# Altium integrated library SOS_PAT.IntLib: 36 symbols
Pins are listed as number, name and electrical type; pins without a type are passive.

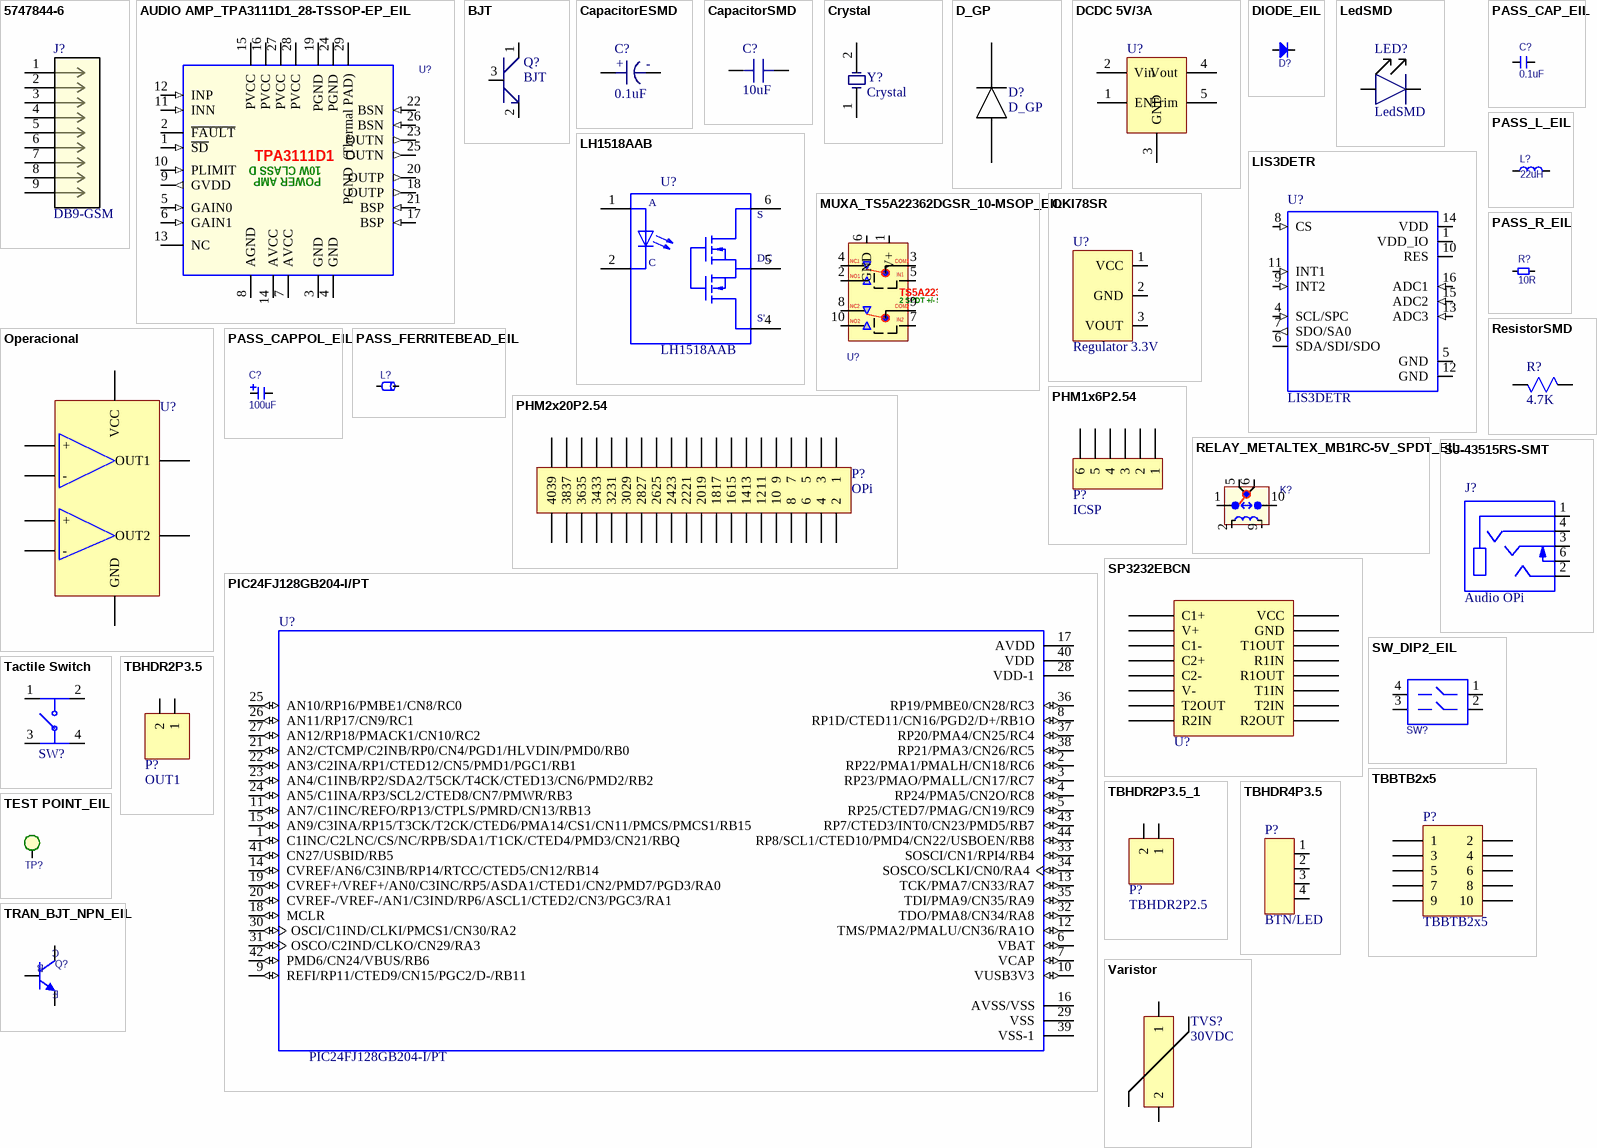
[diagram p0: symbols 5747844-6 to Varistor]

## 5747844-6
designator J?, comment DB9-GSM
Imported; PartNo: 5747844-6; Manufacturer Name: TE Connectivity AMP Connectors; PartDescription: CONN D-SUB RCPT 9POS R/A SOLDER; Review: No instalar; Digi-Key Part Number: A32119-ND; Distributors Part Number: A32119-ND; Manufacturers Part Number: 5747844-6; Package: 9 Position D-Sub Receptacle; Type: Through Hole
footprint CONN_5747844-6
pins: 1, 2, 3, 4, 5, 6, 7, 8, 9

## AUDIO AMP_TPA3111D1_28-TSSOP-EP_EIL
designator U?  (value not drawn)
IC AMP AUD PWR 10W MONO 28HTSSOP_AMPLIFICADOR CLASE D 10W 28-HTSSOP EXPOSED PAD; PartNo: TPA3111D1PWPR; Manufacturer Name: Texas Instruments; Package: 28-PowerTSSOP (0.173", 4.40mm Width); Value: TPA3111; Digi-Key Part Number: 296-25121-1-ND; Distributors Part Number: 296-25121-1-ND; Manufacturers Part Number: TPA3111D1PWPR; PartDescription: IC AMP AUD PWR 10W MONO 28HTSSOP; Type: Surface Mount
footprint CHIP_TSSOP-28 EXPOSED PAD LARGO 9.7MM/ANCHO 4.4MM/PITCH 0.65MM (EJ: TPA3111)
footprint CHIP_TSSOP-28 EXPOSED PAD LARGO 9.7MM/ANCHO 4.4MM/PITCH 0.65MM - REFLOW (EJ: TPA3111)
pins: 1 ~{SD} (in), 2 ~{FAULT} (oc), 3 GND (power), 4 GND (power), 5 GAIN0 (in), 6 GAIN1 (in), 7 AVCC (power), 8 AGND (power), 9 GVDD (out), 10 PLIMIT (in), 11 INN (in), 12 INP (in), 13 NC, 14 AVCC (power), 15 PVCC (power), 16 PVCC (power), 17 BSP (in), 18 OUTP (out), 19 PGND (power), 20 OUTP (out), 21 BSP (in), 22 BSN (in), 23 OUTN (out), 24 PGND (power), 25 OUTN (out), 26 BSN (in), 27 PVCC (power), 28 PVCC (power), 29 PGND  (Thermal PAD) (power)
text: 10W CLASS D; TPA3111D1; POWER AMP

## BJT
designator Q?
Transistor BJT; Manufacturer Name: Diodes Incorporated; Manufacturers Part Number: MMBT2222A-7-F; PartDescription: TRANS NPN 40V 0.6A SMD SOT23-3; Type: Surface Mount; Digi-Key Part Number: MMBT2222A-FDICT-ND; Distributors Part Number: MMBT2222A-FDICT-ND; Package: TO-236-3, SC-59, SOT-23-3; PartNo: MMBT2222A-7-F
footprint BJT
pins: 1, 2, 3

## CapacitorESMD
designator C?, comment 0.1uF
Electrolitic Capacitor; PartNo: CC0805KRX7R8BB104; Manufacturer Name: Yageo; PartDescription: CAP CER 0.1UF 25V X7R 0805; Type: Surface Mount; Digi-Key Part Number: 311-1141-1-ND; Value: 0.1uF; Package: 0805; Distributors Part Number: 311-1141-1-ND; Manufacturers Part Number: CC0805KRX7R8BB104
footprint CAPACITORE0805
footprint CAPACITORE1206
footprint RadialSMD6.3 (SMD Type Radial)
footprint RADIALSMD4.0
pins: 1, 2
text: +; -

## CapacitorSMD
designator C?  value 10uF  (hidden comment: CapacitorSMD)
Ceramic Capacitor; PartNo: CC0805ZKY5V6BB106; Manufacturer Name: Yageo; PartDescription: CAP CER 10UF 10V Y5V 0805; Type: Surface Mount; Digi-Key Part Number: 311-1355-1-ND; Package: 0805; Distributors Part Number: 311-1355-1-ND; Manufacturers Part Number: CC0805ZKY5V6BB106
footprint Capacitor1206
footprint Capacitor0805
pins: 1, 2

## Crystal
designator Y?
Crystal SMD; Manufacturer Name: ECS Inc.; Manufacturers Part Number: ECS-240-8-30B-CKM; PartDescription: CRYSTAL 24.0000MHZ 8PF SMD; Value: 24MHz; Digi-Key Part Number: XC1842CT-ND; Distributors Part Number: XC1842CT-ND; Package: 4-SMD, No Lead; PartNo: ECS-240-8-30B-CKM; Type: Surface Mount
footprint CrystalSMD
footprint CRYSTALSMDMini
footprint CRYSTALTHR (Crystal Thru - Hole)
pins: 1, 2

## D_GP
designator D?
Single Diode Rectifier SMD; PartNo: CDBA540-HF; Manufacturer Name: Comchip Technology; PartDescription: DIODE SCHOTTKY 40V 5A DO214AC; Type: Surface Mount; Digi-Key Part Number: 641-1707-1-ND; Package: DO-214AC, SMA; Distributors Part Number: 641-1707-1-ND; Manufacturers Part Number: CDBA540-HF
footprint SMA (Diode SMA)
footprint DIODO
footprint SMB (Diode SMB)
footprint SOD80
pins: 1, 2

## DCDC 5V/3A
designator U?  (value not drawn)
Non-Isolated PoL Module DC DC Converter 1 Output 0.59 ~ 6 V 3A 4.5V - 14V Input; PartNo: OKR-T/3-W12-C; Manufacturer Name: Murata Power Solutions Inc.; PartDescription: DC DC CONVERTER 0.59-6V 15W; Digi-Key Part Number: 811-2115-5-ND; Package: 5-SIP Module; Distributors Part Number: 811-2115-5-ND; Manufacturers Part Number: OKR-T/3-W12-C; Type: Through Hole
footprint OKR
pins: 1 EN, 2 Vin, 3 GND, 4 Vout, 5 Trim

## DIODE_EIL
designator D?  (value not drawn)
DIODE GEN PURP 100V 150MA SOD123; PartNo: 1N4148W-TP; Manufacturer Name: Micro Commercial Co; Value: 1N4148; Type: Surface Mount; Package: SOD-123; Digi-Key Part Number: 1N4148WTPMSCT-ND; Distributors Part Number: 1N4148WTPMSCT-ND; Manufacturers Part Number: 1N4148W-TP; PartDescription: DIODE GEN PURP 100V 150MA SOD123
footprint DIOD_SOD123 (EJ: 1N4148W)
footprint DIOD_SMA_1 (EJ: B340LA-13-F)
footprint DIOD_SMA_0 (EJ: B340LA-13-F)
footprint DIOD_DO-41 THR (EJ: 1N4729)
footprint DIOD_D2-PAK-3_1 ANODE (EJ: VS-MBRB1645PbF)
footprint DIOD_D2-PAK-3_2 ANODE (EJ: MBRB2545CTG)
footprint DIOD_DO-214_SMA_1 (EJ: B340LA-13-F, SS1H10)
footprint DIOD_SMB (EJ: RS3MB-13-F)
footprint DIOD_SMC (EJ: S3K)
footprint DIOD_SOT-23 (EJ: BZX84C15LT1)
footprint DIOD_TO-277A (SMPC) (EJ: V10P10)
footprint DIOD_POWERMITE3_MICROSEMI (EJ: UPS760E3/TR13)
footprint DIOD_DO-201AD THR (EJ: MUR460)
footprint DIOD_SOD323F (EJ: BAS21J,115)
footprint DIOD_DO-15 THR (EJ: P6KE440CA-TP)
footprint DIOD_R6 AXIAL THR (EJ: 6A10)
footprint DIOD_SOD123 - REFLOW (PARA DIODOS SOD123 Y SOD123FL EJ: 1N4148-TP)
pins: A, K

## LedSMD
designator LED?
Discrete Led SMD 1205 Green; PartNo: LTST-C150GKT; Manufacturer Name: Lite-On Inc.; PartDescription: LED GREEN CLEAR 1206 SMD; Type: Surface Mount; Digi-Key Part Number: 160-1169-1-ND; Package: 1206 (3216 Metric); Distributors Part Number: 160-1169-1-ND; Manufacturers Part Number: LTST-C150GKT
footprint SMD1206
pins: 1, 2

## LH1518AAB
designator U?
LH1518AAB Series SPST _1 Form A_ Solid State Relay Surface Mount - SMD-6; Manufacturer Name: Vishay; PartDescription: SSR RELAY SPST-NO 300MA 0-250V; Package: 6-SMD (0.300", 7.62mm); Value: *; Digi-Key Part Number: LH1518AAB-ND; Distributors Part Number: LH1518AAB-ND; Manufacturers Part Number: LH1518AAB; PartNo: LH1518AAB; Type: Surface Mount
footprint SOIC254P1005X390-6N
pins: 1 A, 2 C, 4 S', 5 DC, 6 S

## LIS3DETR
designator U?
MEMS digital output motion sensor ultra low-power high performance 3-axes nano accelerometer; Manufacturer Name: STMicroelectronics; PartDescription: ACCEL 2-16G I2C/SPI 16LGA; Package: 16-VFLGA; Value: *; Digi-Key Part Number: 497-16262-1-ND; Distributors Part Number: 497-16262-1-ND; Manufacturers Part Number: LIS3DETR; PartNo: LIS3DETR; Type: Surface Mount
footprint LGA16R50P5X3_300X300X100N
pins: 1 VDD_IO (power), 4 SCL/SPC (in), 5 GND (power), 6 SDA/SDI/SDO (io), 7 SDO/SA0 (out), 8 CS (in), 9 INT2 (in), 10 RES (power), 11 INT1 (in), 12 GND (power), 13 ADC3 (in), 14 VDD (power), 15 ADC2 (in), 16 ADC1 (in)

## MUXA_TS5A22362DGSR_10-MSOP_EIL
designator U?  (value not drawn)
IC SWITCH DUAL SPDT 10MSOP_5-V/3.3-V 2-CHANNEL 2:1 MULTIPLEXER/DEMULTIPLEXER ANALOGICO +/- VIN 10-MSOP; Manufacturer Name: Texas Instruments; Package: 10-TFSOP, 10-MSOP (0.118", 3.00mm Width); PartNo: TS5A22362DGSR; Value: TS5A22362; Digi-Key Part Number: 296-24799-1-ND; Distributors Part Number: 296-24799-1-ND; Manufacturers Part Number: TS5A22362DGSR; PartDescription: IC SWITCH DUAL SPDT 10MSOP; Type: Surface Mount
footprint CHIP_MSOP-10 LARGO 3.0MM/ANCHO 3.0MM/PITCH 0.5MM - REFLOW (EJ: RTC DS1390)
footprint CHIP_MSOP-10 LARGO 3.0MM/ANCHO 3.0MM/PITCH 0.5MM - REFLOW (EJ: RTC DS1390)
pins: 1 V+ (power), 2 NO1, 3 COM1, 4 NC1, 5 IN1, 6 GND, 7 IN2, 8 NC2, 9 COM2, 10 NO2
text: 2 SPDT +/- SW

## OKI78SR
designator U?, comment Regulator 3.3V
Regulator DC-DC 3.3V 1.5A; PartNo: OKI-78SR-3.3/1.5-W36-C; Manufacturer Name: Murata Power Solutions Inc.; PartDescription: DC DC CONVERTER 3.3V 5W; Digi-Key Part Number: 811-2195-5-ND; Package: 3-SIP Module; Distributors Part Number: 811-2195-5-ND; Manufacturers Part Number: OKI-78SR-3.3/1.5-W36-C; Type: Through Hole
footprint OKI78SR (Regulator DC-DC 3.3V 1.5A)
pins: 1 VCC, 2 GND, 3 VOUT

## Operacional
designator U?  (value not drawn)
2channel Vcc=4-16Vmax; PartNo: LM358DT; Manufacturer Name: STMicroelectronics; PartDescription: IC OPAMP GP 1.1MHZ 8SO; Digi-Key Part Number: 497-1591-1-ND; Distributors Part Number: 497-1591-1-ND; Manufacturers Part Number: LM358DT; Package: 8-SOIC (0.154", 3.90mm Width); Type: Surface Mount
footprint SO8
pins: 1 OUT1, 2 -, 3 +, 4 GND, 5 +, 6 -, 7 OUT2, 8 VCC

## PASS_CAP_EIL
designator C?  value 0.1uF  (hidden comment: PASS_CAP_EIL)
CAP CER 0.1UF 25V X7R 0603; PartNo: CL10B104KA8NNNC; Manufacturer Name: Samsung Electro-Mechanics; PartDescription: CAP CER 0.1UF 50V Y5V 0603; Type: Surface Mount; Package: 0603 (1608 Metric); Digi-Key Part Number: 1276-1012-1-ND; Distributors Part Number: 1276-1012-1-ND; Manufacturers Part Number: CL10B104KA8NNNC
footprint PASS_CAPC0603 (CONDENSADORES 0603)
footprint PASS_CAPC0805 (CONDENSADORES 0805)
footprint PASS_CAPC1206 (CONDENSADORES 1206)
footprint PASS_CAPC1210 (CONDENSADORES 1210)
footprint PASS_CAPC2220 (CONDENSADORES 2220)
footprint PASS_CAP_RAD PITCH:15MM L:18MM H:16MM T:10MM THR (CONDENSADORES TIPO FILM/DISCO CON PITCH:15MM L:18MM H:16MM T:10MM)
footprint PASS_CAP_RAD PITCH:15MM L:18MM H:11MM T:5MM THR (CONDENSADORES TIPO FILM/DISCO CON PITCH:15MM L:18MM H:11MM T:5MM)
footprint PASS_CAP_RAD TAMURA AMARILLO THR (CONDESADOR AMARILLO TAMURA)
footprint PASS_CAP_SERIE DEB THR (CONDENSADORES CERAMICOS MURATA SERIE DEB. DIA: 12.00MM X PITCH: 7.50MM)
footprint PASS_CAPC1210 - HV (CONDENSADORES 1210 ALTO VOLTAJE)
footprint PASS_CAPC0603 - REFLOW (CONDENSADOR 0603)
footprint PASS_CAPC0805 - REFLOW (CONDENSADOR 0805)
footprint PASS_CAPC1206 - REFLOW (CONDENSADOR 1206)
footprint PASS_CAPC1210 - REFLOW (CONDENSADOR 1210)
pins: 1, 2

## PASS_CAPPOL_EIL
designator C?  value 100uF  (hidden comment: PASS_CAPPOL_EIL)
CAP ALUM 100UF 20% 35V SMD; PartNo: EEE-FP1V101AP; Manufacturer Name: Panasonic Electronic Components; Type: Surface Mount; Package: Radial, Can - SMD; Digi-Key Part Number: PCE4442CT-ND; Distributors Part Number: PCE4442CT-ND; Manufacturers Part Number: EEE-FP1V101AP; PartDescription: CAP ALUM 100UF 20% 35V SMD
footprint PASS_CAPPOL PITCH:2MM DIA:5MM H:11MM THR (CONDENSADORES ELECTROLITICOS EN ENCAPSULADO RADIAL CON PITCH:2MM DIA:5MM H:11MM)
footprint PASS_CAPPOL_SMD-B (CONDENSADORES ELECTROLITICOS EN ENCAPSULADO CAN SMD SIZE B - A=B=4.3MM, L=5.5MM)
footprint PASS_CAPPOL_SMD-C (CONDENSADORES ELECTROLITICOS EN ENCAPSULADO CAN SMD SIZE C - A=B=5.3MM, L=5.5MM, H=6.5 MM MAX)
footprint PASS_CAPPOL PITCH:10MM DIA:30MM H:45MM THR (CONDENSADORES ELECTROLITICOS EN ENCAPSULADO RADIAL CON PITCH:10MM DIA:30MM H:45MM)
footprint PASS_CAPPOL_SMD-F (CONDENSADORES ELECTROLITICOS EN ENCAPSULADO CAN SMD SIZE F - A=B=8.3MM, L=10.2MM, H=10MM MAX)
footprint PASS_CAPPOL_SMD-G (CONDENSADORES ELECTROLITICOS EN ENCAPSULADO CAN SMD SIZE G - A=B=10.3MM, L=10.2MM, H=12 MM MAX)
footprint PASS_CAPPOL_SMD-P (CONDENSADORES ELECTROLITICOS EN ENCAPSULADO CAN SMD SIZE P - A=B=17MM, L=16.5MM, H=19 MM MAX)
footprint PASS_CAPPOL PITCH:10MM DIA:22MM H:25MM THR (CONDENSADORES ELECTROLITICOS EN ENCAPSULADO RADIAL CON PITCH:10MM DIA:22MM H:25MM)
footprint PASS_CAPPOL_SMD-K21 (CONDENSADORES ELECTROLITICOS EN ENCAPSULADO CAN SMD SIZE P - A=B=19MM, L=21.5MM, H=21 MM MAX)
footprint PASS_CAPPOL_SMD-D (CONDENSADORES ELECTROLITICOS EN ENCAPSULADO CAN SMD SIZE D/D8 - A=B=6.6MM, L=5.4/7.7MM, H=7.8 MM MAX)
footprint PASS_CAPPOL_SMD-D8 (CONDENSADORES ELECTROLITICOS EN ENCAPSULADO CAN SMD SIZE D/D8 - A=B=6.6MM, L=5.4/7.7MM, H=7.8 MM MAX)
footprint PASS_CAPPOL PITCH:10MM DIA:30MM H:50MM THR (CONDENSADORES ELECTROLITICOS EN ENCAPSULADO RADIAL CON PITCH:10MM DIA:30MM H:50MM)
footprint PASS_CAPPOL PITCH:3.5MM DIA:8MM H:13MM RUBYCON THR (CONDENSADORES ELECTROLITICOS EN ENCAPSULADO RADIAL CON PITCH:3.50MM DIA:8MM H:13MM)
footprint PASS_CAPPOL TANTALUM SM-D (CAPACITOR, SM TANTALUM; BODY 7.3 X 4.3 MM (LXW TYP))
footprint PASS_CAPPOL_COIN_HORIZ PITCH:10MM DIA:10.5MM H:11.5MM THR (CONDENSADORES ELECTROLITICOS EN ENCAPSULADO RADIAL CON PITCH:10MM DIA:11.5MM H:6.5MM)
pins: 1, 2

## PASS_FERRITEBEAD_EIL
designator L?  (value not drawn)
FERRITE BEAD 70 OHM 1812 1LN; PartNo: 742792510; Manufacturer Name: Wurth Electronics Inc.; Value: 70 Ohm@100MHz; Type: Surface Mount; Package: 1812 (4532 Metric); Digi-Key Part Number: 732-1640-1-ND; Distributors Part Number: 732-1640-1-ND; Manufacturers Part Number: 742792510; PartDescription: FERRITE BEAD 70 OHM 1812 1LN
footprint PASS_FER1206 (FERRITA 1206)
footprint PASS_FER0805 (FERRITA 0805)
footprint PASS_FER0603 (FERRITA 0603)
footprint PASS_FER1812 (FERRITA 1812)
footprint PASS_FER0603 - REFLOW (FERRITA 0603)
footprint PASS_FER0805 - REFLOW (FERRITA 0805)
footprint PASS_FER1206 - REFLOW (FERRITA 1206)
footprint PASS_FER1812 - REFLOW (FERRITA 1812)
pins: 1, 2

## PASS_L_EIL
designator L?  value 22uH  (hidden comment: PASS_L_EIL)
FIXED IND 22UH 3A 60 MOHM SMD; PartNo: SRU1063-220Y; Manufacturer Name: Bourns Inc.; Type: Surface Mount; Package: 0.394" L x 0.394" W (10.00mm x 10.00mm); Digi-Key Part Number: SRU1063-220YCT-ND; Distributors Part Number: SRU1063-220YCT-ND; Manufacturers Part Number: SRU1063-220Y; PartDescription: FIXED IND 22UH 3A 60 MOHM SMD
footprint PASS_INDUCT_CDRH127 (INDUCTOR SUMIDA DE LA SERIE CDRH127)
footprint PASS_INDUCT_WE_74435561100 (PARA INDUCTOR WURTH ELECTRONIK 74435561100)
footprint PASS_INDUCT_IHLP-6767 (INDUCTOR IHLP6767GZER5R6M01 ( L X W X H (17.15MM X 17.15MM X 7.00MM)))
footprint PASS_INDUCT_NR6045T100M (NDUCTOR NR6045T100M 10UH 3.0A 20% SMD)
footprint PASS_INDUCT_NRS8030T2R2NJGJ (INDUCTOR NRS8030T2R2NJGJ 2.2UH 4.8A 30% SMD)
footprint PASS_INDUCT_COOPER_DRQ127 (INDUCTOR COOPER DE SERIE DRQ127)
footprint PASS_INDUCT_1210 (INDUCTOR 1210)
footprint PASS_INDUCT_PM2120_ALTO 20.83MM (INDUCTOR BOURNS SERIE PM2120 DE ALTO 20.83MM)
footprint PASS_FER0603 - REFLOW (FERRITA 0603)
footprint PASS_FER0805 - REFLOW (FERRITA 0805)
footprint PASS_FER1206 - REFLOW (FERRITA 1206)
footprint PASS_FER1812 - REFLOW (FERRITA 1812)
footprint PASS_INDUCT_BOURNS_SRU1063 (INDUCTOR BOURNS SERIE SRU1063)
footprint PASS_INDUCT_BOURNS_SRN4018 (INDUCTOR BOURNS SERIE SRN4018)
pins: 1, 2

## PASS_R_EIL
designator R?  value 10R  (hidden comment: PASS_R_EIL)
RES SMD 10 OHM 1% 1/10W 0603; PartNo: RC0603FR-0710RL; Manufacturer Name: Stackpole Electronics Inc; PartDescription: RES 10 OHM 1% 1/4W 0805; Package: 0603 (1608 Metric); Digi-Key Part Number: RNCP0805FTD10R0CT-ND; Distributors Part Number: RNCP0805FTD10R0CT-ND; Manufacturers Part Number: RC0603FR-0710RL; Type: Surface Mount
footprint PASS_RESC0603 (RESISTENCIA 0603)
footprint PASS_RESC0805 (RESISTENCIA 0805)
footprint PASS_RESC2512 (RESISTENCIA 2512)
footprint PASS_RESC3015_FLIP (RESISTENCIA 3015 WIDE)
footprint PASS_RES_ERX2_PANASONIC (RESISTENCIAS PANASONIC SERIE ERG(X)2H)
footprint PASS_RES_S-5_RIEDON (RESISTENCIAS RIEDON DE 4W SERIE S-5 (L X W)(20.80MM X 7.50MM))
footprint PASS_RESC2010 (RESISTENCIA 2010)
footprint PASS_RESC2725 (RESISTENCIA 2725)
footprint PASS_RES_AXIAL_VR68_VISHAY THR (RESISTENCIAS VISHAY SERIE VR68 (D X L)(6.80MM X 19.00MM))
footprint PASS_RES_ROX075_VISHAY THR (RESISTENCIAS VISHAY SERIE ROX075 (D X L)(7.87MM X 20.32MM))
footprint PASS_RES_TO220 THR (RESISTENCIA TO220)
footprint PASS_RESC1210 (RESISTENCIA 1210)
footprint PASS_RES_CARBON_1W THR (RESISTENCIA CARBON CONVENCIONAL 1W)
footprint PASS_RESC1206 (RESISTENCIA 1206)
footprint PASS_RES_AXIAL_ROX3S_TE THR (RESISTENCIAS TE CONNECTIVITY ROX3S, (D X L)(5.50MM X 16.00MM))
footprint PASS_RES_AXIAL_MRA-05_VISHAY THR (RES AUDIO .39 OHM 5W 1% CERAMIC)
footprint PASS_RES_AXIAL_SQP10-NSP10_YAGEO THR (RESISTENCIAS YAGEO SERIE SQP10AJB (L X W) (48.00MM x 9.50MM)))
footprint PASS_RES_AXIAL_ERG3S_PANASONIC THR (RESISTENCIAS PANASONIC SERIE ERG3S (D X L)(5.50MM X 15.00MM))
footprint PASS_RES_AXIAL_SQP10-NSP10_YAGEO VERSION ALTA PARA VENT THR (RESISTENCIAS YAGEO SERIE SQP10AJB (L X W) (48.00MM x 9.50MM)) PINES LARGOS PARA MEJOR VENTILACION)
footprint PASS_RES_CARBON_1/4W THR (RESISTENCIA CARBON CONVENCIONAL 1/4 W)
footprint PASS_RESC0603 - REFLOW (RESISTENCIA 0603)
footprint PASS_RESC0805 - REFLOW (RESISTENCIA 0805)
footprint PASS_RESC1206 - REFLOW (RESISTENCIA 1206)
footprint PASS_RES (Footprint not found)
footprint PASS_RESC1210 - REFLOW (RESISTENCIA 1210)
pins: 1, 2

## PHM1x6P2.54
designator P?, comment ICSP
Pin Header Male 6 Pins Pitch 2.54mm; PartNo: CONN HEADER R/A 6POS 2.54MM; Manufacturer Name: Harwin Inc.; Digi-Key Part Number: 952-2247-ND; Package: 0.100" (2.54mm); Distributors Part Number: 952-2247-ND; Manufacturers Part Number: CONN HEADER R/A 6POS 2.54MM; PartDescription: CONN HEADER R/A 6POS 2.54MM; Type: Through Hole
footprint MALE6PIN
footprint MALE6PIN
pins: 1, 2, 3, 4, 5, 6

## PHM2x20P2.54
designator P?, comment OPi
Pin Header Male 40 Pins Pitch 2.54mm; PartNo: CONN HDR 40POS 0.1 GOLD PCB; Manufacturer Name: Sullins Connector Solutions; Digi-Key Part Number: S7123-ND; Package: Connector 0.100" (2.54mm) Through Hole; Distributors Part Number: S7123-ND; Manufacturers Part Number: CONN HDR 40POS 0.1 GOLD PCB; PartDescription: CONN HDR 40POS 0.1 GOLD PCB; Type: Through Hole
footprint MALE2x20PIN (Pin Header Male 40 Pins 2Rows)
pins: 1, 2, 3, 4, 5, 6, 7, 8, 9, 10, 11, 12, 13, 14, 15, 16, 17, 18, 19, 20, 21, 22, 23, 24, 25, 26, 27, 28, 29, 30, 31, 32, 33, 34, 35, 36, 37, 38, 39, 40

## PIC24FJ128GB204-I/PT
designator U?
128KB Flash, 8KB RAM, 16 MIPS, USB OTG, Crypto, 44 TQFP 10x10x1mm TRAY; Manufacturer Name: Microchip; PartDescription: IC MCU 16BIT 128KB FLASH 44TQFP; Package: 44-TQFP; Value: *; Digi-Key Part Number: PIC24FJ128GB204-I/PT-ND; Distributors Part Number: PIC24FJ128GB204-I/PT-ND; Manufacturers Part Number: PIC24FJ128GB204-I/PT; PartNo: PIC24FJ128GB204-I/PT; Type: Surface Mount
footprint QFP80P1200X1200X120-44N
pins: 1 C1INC/C2LNC/CS/NC/RPB/SDA1/T1CK/CTED4/PMD3/CN21/RBQ (io), 2 RP22/PMA1/PMALH/CN18/RC6 (io), 3 RP23/PMAO/PMALL/CN17/RC7 (io), 4 RP24/PMA5/CN2O/RC8 (io), 5 RP25/CTED7/PMAG/CN19/RC9 (io), 6 VBAT (io), 7 VCAP (io), 8 RP1D/CTED11/CN16/PGD2/D+/RB1O (io), 9 REFI/RP11/CTED9/CN15/PGC2/D-/RB11 (io), 10 VUSB3V3 (io), 11 AN7/C1INC/REFO/RP13/CTPLS/PMRD/CN13/RB13 (io), 12 TMS/PMA2/PMALU/CN36/RA1O (io), 13 TCK/PMA7/CN33/RA7 (io), 14 CVREF/AN6/C3INB/RP14/RTCC/CTED5/CN12/RB14 (io), 15 AN9/C3INA/RP15/T3CK/T2CK/CTED6/PMA14/CS1/CN11/PMCS/PMCS1/RB15 (io), 16 AVSS/VSS (power), 17 AVDD (power), 18 MCLR (io), 19 CVREF+/VREF+/AN0/C3INC/RP5/ASDA1/CTED1/CN2/PMD7/PGD3/RA0 (io), 20 CVREF-/VREF-/AN1/C3IND/RP6/ASCL1/CTED2/CN3/PGC3/RA1 (io), 21 AN2/CTCMP/C2INB/RP0/CN4/PGD1/HLVDIN/PMD0/RB0 (io), 22 AN3/C2INA/RP1/CTED12/CN5/PMD1/PGC1/RB1 (io), 23 AN4/C1INB/RP2/SDA2/T5CK/T4CK/CTED13/CN6/PMD2/RB2 (io), 24 AN5/C1INA/RP3/SCL2/CTED8/CN7/PMWR/RB3 (io), 25 AN10/RP16/PMBE1/CN8/RC0 (io), 26 AN11/RP17/CN9/RC1 (io), 27 AN12/RP18/PMACK1/CN10/RC2 (io), 28 VDD-1 (power), 29 VSS (power), 30 OSCI/C1IND/CLKI/PMCS1/CN30/RA2 (io), 31 OSCO/C2IND/CLKO/CN29/RA3 (io), 32 TDO/PMA8/CN34/RA8 (io), 33 SOSCI/CN1/RPI4/RB4 (io), 34 SOSCO/SCLKI/CN0/RA4 (io), 35 TDI/PMA9/CN35/RA9 (io), 36 RP19/PMBE0/CN28/RC3 (io), 37 RP20/PMA4/CN25/RC4 (io), 38 RP21/PMA3/CN26/RC5 (io), 39 VSS-1 (power), 40 VDD (power), 41 CN27/USBID/RB5 (io), 42 PMD6/CN24/VBUS/RB6 (io), 43 RP7/CTED3/INT0/CN23/PMD5/RB7 (io), 44 RP8/SCL1/CTED10/PMD4/CN22/USBOEN/RB8 (io)

## RELAY_METALTEX_MB1RC-5V_SPDT_EIL
designator K?  (value not drawn)
RELAY GENERAL PURPOSE SPDT 1A 5V; PartNo: G5V-1-DC5; Manufacturer Name: Panasonic Electric Works; PartDescription: RELAY TELECOM SPDT 1A 5VDC; Value: 5V/CONTACTO 1A; Package: *; Digi-Key Part Number: 255-1092-ND; Distributors Part Number: 255-1092-ND; Manufacturers Part Number: G5V-1-DC5; Type: Through Hole
footprint RELAY_METALTEX_MB1RC-5V_SPDT THR (RELAYS METALTEX MB1RC)
pins: 1, 2, 5, 6, 9, 10

## ResistorSMD
designator R?  value 4.7K  (hidden comment: ResistorSMD)
Chip Resistor SMD; PartNo: ERJ-6GEYJ472V; Manufacturer Name: Panasonic Electronic Components; PartDescription: RES SMD 4.7K OHM 5% 1/8W 0805; Digi-Key Part Number: P4.7KACT-ND; Package: 0805 (2012 Metric); Distributors Part Number: P4.7KACT-ND; Manufacturers Part Number: ERJ-6GEYJ472V; Type: Surface Mount
footprint ResistorSMD1206
footprint ResistorSMD0805
pins: 1, 2

## SJ-43515RS-SMT
designator J?, comment Audio OPi
PartNo: SJ-43515RS-SMT-TR; Manufacturer Name: CUI Inc.; PartDescription: CONN JACK 4COND 3.5MM SMD R/A; Value: *; Digi-Key Part Number: CP-43515RSSJCT-ND; Distributors Part Number: CP-43515RSSJCT-ND; Manufacturers Part Number: SJ-43515RS-SMT-TR; Type: Surface Mount
footprint CUI_SJ-43515RS-SMT
pins: 1 SLEEVE, 2 TIP, 3 RING1, 4 RING2, 6 RING_SWITCH

## SP3232EBCN
designator U?  (value not drawn)
Serial Adapter RS232; Manufacturer Name: MaxLinear, Inc.; Manufacturers Part Number: SP3232ECN-L/TR; PartDescription: IC TXRX RS232 ESD TRUE 16SOIC; Digi-Key Part Number: 1016-1803-1-ND; Distributors Part Number: 1016-1803-1-ND; Package: 16-SOIC (0.154", 3.90mm Width); PartNo: SP3232ECN-L/TR; Type: Surface Mount
footprint SP3232EBCN
pins: 1 C1+, 2 V+, 3 C1-, 4 C2+, 5 C2-, 6 V-, 7 T2OUT, 8 R2IN, 9 R2OUT, 10 T2IN, 11 T1IN, 12 R1OUT, 13 R1IN, 14 T1OUT, 15 GND, 16 VCC

## SW_DIP2_EIL
designator SW?  (value not drawn)
SWITCH TIN CONT 2 SEC 50V; PartNo: 208-2; Manufacturer Name: CTS Electrocomponents; PartDescription: SWITCH SLIDE DIP SPST 50MA 24V; Value: DIP SWITCH 2; Digi-Key Part Number: CT2082-ND; Distributors Part Number: CT2082-ND; Manufacturers Part Number: 208-2; Package: 0.100" (2.54mm), Full; Type: Through Hole
footprint SWIT_DIP-2- RAISED THR (DIP-8; Row Spacing 7.62 mm; Pitch 2.54 mm.  CAJA 7.26mm X 9.78mm)
pins: 1, 2, 3, 4

## Tactile Switch
designator SW?  (value not drawn)
Switch Contact; Manufacturer Name: C&K; Manufacturers Part Number: PTS645SM43SMTR92 LFS; PartDescription: SWITCH TACTILE SPST-NO 0.05A 12V; Digi-Key Part Number: CKN9112CT-ND; Distributors Part Number: CKN9112CT-ND; Package: 6.00mm x 6.00mm; PartNo: PTS645SM43SMTR92 LFS; Type: Surface Mount
footprint TactileSwitch
pins: 1, 2, 3, 4

## TBBTB2x5
designator P?
Connector board to board 2 Rows, 5 Columns Pitch 2.54mm; Manufacturer Name: On Shore Technology Inc.; Manufacturers Part Number: 302-S101; PartDescription: CONN HEADER VERT 10POS 2.54MM; Digi-Key Part Number: ED1543-ND; Distributors Part Number: ED1543-ND; PartNo: 302-S101; Type: Through Hole
footprint TBBTB2x5 (Board to Board 2x5 Pitch 2.54mm)
footprint TBBTB2x5RightAngle
pins: 1, 2, 3, 4, 5, 6, 7, 8, 9, 10

## TBHDR2P3.5
designator P?, comment OUT1
Connector 2 positions with pitch 3.5mm; PartNo: 691321100002; Manufacturer Name: Wurth Electronics Inc.; PartDescription: TERM BLOCK HDR 2POS VERT 3.5MM; Digi-Key Part Number: 732-2763-ND; Package: 0.138" (3.50mm) Vertical Through Hole; Distributors Part Number: 732-2763-ND; Manufacturers Part Number: 691321100002; Type: Through Hole; Value: 2 Position
footprint TBHDR2P3.5 (Connector Green 2 positions with pitch 3.5mm)
footprint TBHDR2P3.5VERTICAL
pins: 1, 2

## TBHDR2P3.5_1
designator P?, comment TBHDR2P2.5
Connector 2 positions with pitch 3.5mm; Manufacturer Name: Phoenix Contact; Manufacturers Part Number: 1778625; PartDescription: TERM BLOCK HDR 2POS 90DEG 2.5MM; Digi-Key Part Number: 277-2308-1-ND; Distributors Part Number: 277-2308-1-ND; PartNo: 1778625; Type: Through Hole
footprint TBHDR2P3.5 (Connector Green 2 positions with pitch 3.5mm)
footprint TBHDR2P3.5VERTICAL
footprint TBR2.5
pins: 1, 2

## TBHDR4P3.5
designator P?, comment BTN/LED
Connector 4 positions; PartNo: 691321100004; Manufacturer Name: Wurth Electronics Inc.; PartDescription: TERM BLOCK HDR 4POS VERT 3.5MM; Digi-Key Part Number: 732-2765-ND; Package: 0.138" (3.50mm) Vertical Through Hole; Distributors Part Number: 732-2765-ND; Manufacturers Part Number: 691321100004; Type: Through Hole; Value: 4 Position
footprint TBHDR4P3.5 (Connector Green 4 positions with pitch 3.5mm)
pins: 1, 2, 3, 4

## TEST POINT_EIL
designator TP?  (value not drawn)
TESTPOINT; PartNo: NO; Value: NO; Package: NO; Manufacturers Part Number: NO
footprint MISC_TESTPOINT THR (TESTPOINT)
pins: 1

## TRAN_BJT_NPN_EIL
designator Q?  (value not drawn)
TRANS NPN 45V 0.5A SOT23; PartNo: BC817-40LT1G; Manufacturer Name: ON Semiconductor; Type: Surface Mount; Package: TO-236-3, SC-59, SOT-23-3; Digi-Key Part Number: BC817-40LT1GOSCT-ND; Distributors Part Number: BC817-40LT1GOSCT-ND; Manufacturers Part Number: BC817-40LT1G; PartDescription: TRANS NPN 45V 0.5A SOT23
footprint 3PIN_SOT-23 BJT (PNP, NPN EJ: BC807, BC817)
footprint 3PIN_TO-252-3_D-PAK-3 BJT (PNP, NPN EJ: MJD45, MJD47)
footprint 3PIN_SOT-23 BJT - REFLOW (PNP, NPN EJ: BC807, BC817)
pins: B, C, E

## Varistor
designator TVS?, comment 30VDC
Varistor SMD; Manufacturer Name: Panasonic Electronic Components; Manufacturers Part Number: ERZ-VF2M330; PartDescription: VARISTOR 33V 125A 2SMD JLEAD; Digi-Key Part Number: P7347CT-ND; Distributors Part Number: P7347CT-ND; Package: 2-SMD, J-Lead; PartNo: ERZ-VF2M330; Type: Surface Mount
footprint Varistor (Package 2-SMD 30V)
pins: 1, 2